# Altium schematic symbol library Schlib.SchLib: 58 symbols (part 3 of 3)
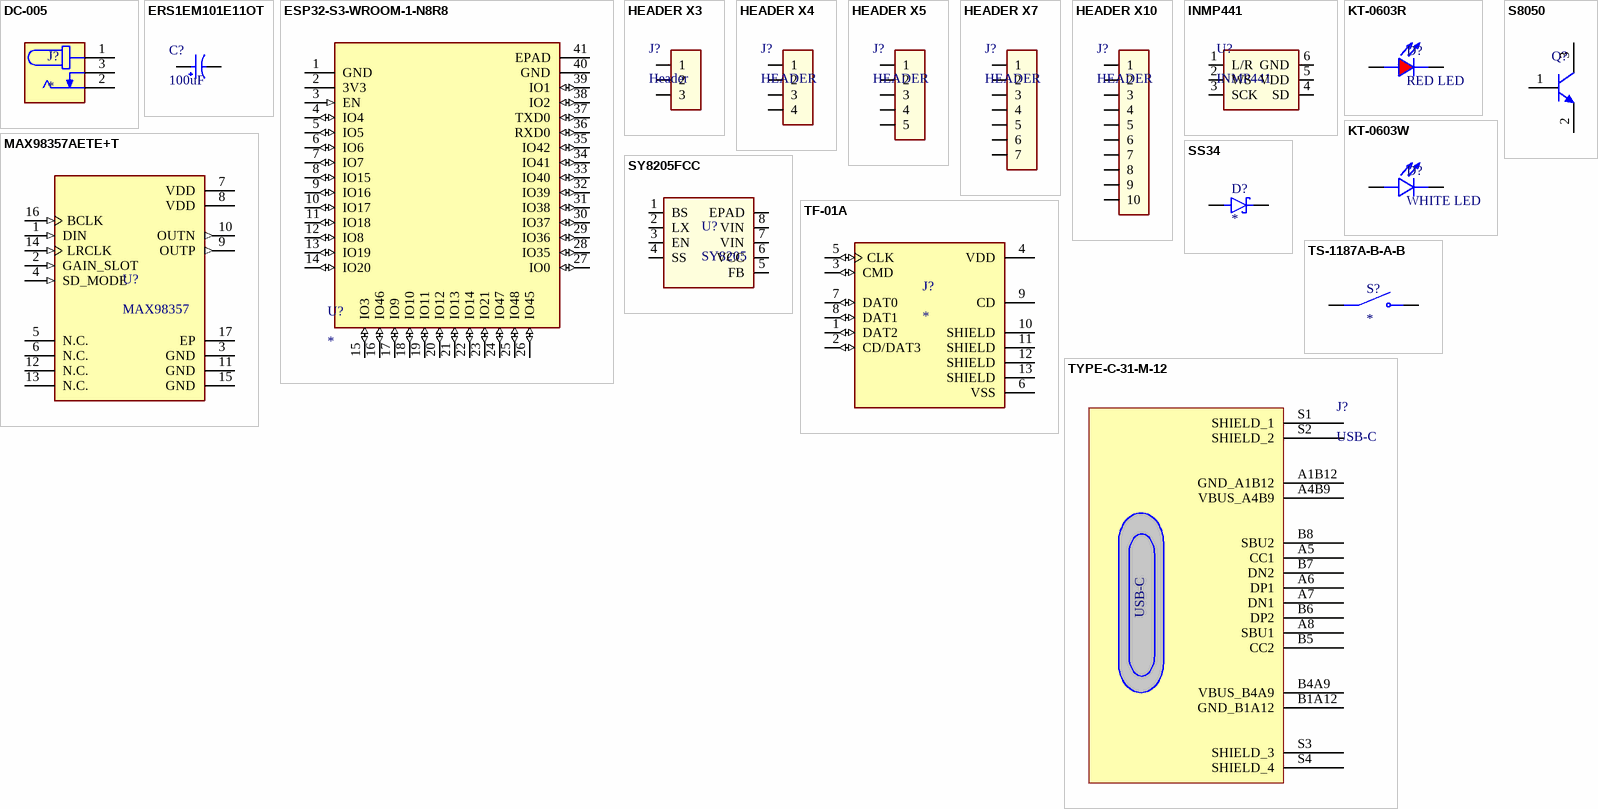
[diagram p3: symbols DC-005 to TYPE-C-31-M-12]

## DC-005
designator J?
DC Jack; MP: DC-005; Availability: Unavailable; Value: *; Package: None; Price: None
footprint XKB_DC-005-5A-2.0
pins: 1, 2, 3

## ERS1EM101E11OT
designator C?, comment 100uF
100uF 25V ±20% Plugin, D6.3xL11mm Aluminum Electrolytic Capacitors - Leaded ROHS; Manufacturer: AISHI; Manufacturer Part Number: ERS1EM101E11OT; Value: 100µF; Leakage Current: 25µA; Ripple Current: 140mA; Supplier: Future Electronics; Supplier Part Number: 1125307; RoHS: Compliant; Category: Aluminum Electrolytic Capacitors; Pricing: 1000=0.0251, 5000=0.0242, 12500=0.0238, 37500=0.0232, 75000=0.0224 (USD); Diameter: 6.3mm; Length: 11mm; Max Operating Temperature: 105°C; Min Operating Temperature: -40°C; Number of Terminals: 2; Packaging: Bulk; REACH SVHC: Yes; Terminal Pitch: 2.5mm; Voltage Rating (DC): 25V; ComponentLink1URL: https://datasheet.octopart.com:443/ERS1EM101E11OT-AISHI-datasheet-182031447.pdf?src-supplier=IHS; ComponentLink1Description: https://datasheet.octopart.com:443/ERS1EM101E11OT-AISHI-datasheet-182031447.pdf?src-supplier=IHS; ComponentLink2URL: https://datasheet.octopart.com:443/ERS1EM101E11OT-AISHI-datasheet-153668799.pdf?src-supplier=Master+Electronics; ComponentLink2Description: https://datasheet.octopart.com:443/ERS1EM101E11OT-AISHI-datasheet-153668799.pdf?src-supplier=Master+Electronics; ComponentLink3URL: https://datasheet.octopart.com:443/ERS1EM101E11OT-AISHI-datasheet-141413433.pdf?src-supplier=Future+Electronics; ComponentLink3Description: https://datasheet.octopart.com:443/ERS1EM101E11OT-AISHI-datasheet-141413433.pdf?src-supplier=Future+Electronics
footprint Cap_DD6.3xP2.5xL11
pins: 1, 2

## ESP32-S3-WROOM-1-N8R8
designator U?
Bluetooth, WiFi 802.11b/g/n, Bluetooth v5.0 Transceiver Module 2.4GHz PCB Trace Surface Mount; MF: Espressif Systems; MP: ESP32-S3-WROOM-1-N8R8; Package: None; Price: None; Check_prices: https://www.snapeda.com/parts/ESP32-S3-WROOM-1-N8R8/Espressif+Systems/view-part/?ref=eda; Value: *; SnapEDA_Link: https://www.snapeda.com/parts/ESP32-S3-WROOM-1-N8R8/Espressif+Systems/view-part/?ref=snap; Availability: In Stock; Purchase-URL: https://pricing.snapeda.com/search?q=ESP32-S3-WROOM-1-N8R8&ref=eda; JLCPCB Part Number: C2913201
footprint XCVR_ESP32S3WROOM1N8R8; pin to pad 41>41_1+41_2+41_3+41_4+41_5+41_6+41_7+41_8+41_9+41_10+41_11+41_12+41_13+41_14+41_15+41_16+41_17+41_18+41_19+41_20+41_21
pins: 1 GND (power), 2 3V3 (power), 3 EN (in), 4 IO4 (io), 5 IO5 (io), 6 IO6 (io), 7 IO7 (io), 8 IO15 (io), 9 IO16 (io), 10 IO17 (io), 11 IO18 (io), 12 IO8 (io), 13 IO19 (io), 14 IO20 (io), 15 IO3 (io), 16 IO46 (io), 17 IO9 (io), 18 IO10 (io), 19 IO11 (io), 20 IO12 (io), 21 IO13 (io), 22 IO14 (io), 23 IO21 (io), 24 IO47 (io), 25 IO48 (io), 26 IO45 (io), 27 IO0 (io), 28 IO35 (io), 29 IO36 (io), 30 IO37 (io), 31 IO38 (io), 32 IO39 (io), 33 IO40 (io), 34 IO41 (io), 35 IO42 (io), 36 RXD0 (io), 37 TXD0 (io), 38 IO2 (io), 39 IO1 (io), 40 GND (power), 41 EPAD (power)

## HEADER X3
designator J?, comment Header
footprint HEADER X3
footprint HEADER X3 - ANGLED
pins: 1, 2, 3

## HEADER X4
designator J?, comment HEADER
footprint HEADER X4
footprint HEADER X4 - ANGLED
pins: 1, 2, 3, 4

## HEADER X5
designator J?, comment HEADER
footprint HEADER X5
footprint HEADER X5 - ANGLED
pins: 1, 2, 3, 4, 5

## HEADER X7
designator J?, comment HEADER
footprint HEADER X7
footprint HEADER X7 - ANGLED
pins: 1, 2, 3, 4, 5, 6, 7

## HEADER X10
designator J?, comment HEADER
footprint HEADER X10
footprint HEADER X10 - ANGLED
pins: 1, 2, 3, 4, 5, 6, 7, 8, 9, 10

## INMP441
designator U?
footprint INMP441
pins: 1 L/R, 2 WS, 3 SCK, 4 SD, 5 VDD, 6 GND

## KT-0603R
designator D?, comment RED LED
Red 0603 Light Emitting Diodes; MF: Hubei KENTO Elec; MP: KT-0603R; SnapEDA_Link: https://www.snapeda.com/parts/KT-0603R/Hubei+KENTO+Elec/view-part/?ref=snap; Package: Package; Check_prices: https://www.snapeda.com/parts/KT-0603R/Hubei+KENTO+Elec/view-part/?ref=eda; JLCPCB Part Number: C2286; Value: *
footprint LED_KT-0603R
footprint LED_KT-0603R
pins: A, C

## KT-0603W
designator D?, comment WHITE LED
White 0603 Light Emitting Diodes; MF: Hubei KENTO Elec; MP: KT-0603W; SnapEDA_Link: https://www.snapeda.com/parts/KT-0603R/Hubei+KENTO+Elec/view-part/?ref=snap; Package: Package; Check_prices: https://www.snapeda.com/parts/KT-0603R/Hubei+KENTO+Elec/view-part/?ref=eda; JLCPCB Part Number: C2290; Value: *
footprint LED_KT-0603R
footprint LED_KT-0603R
pins: A, C

## MAX98357AETE+T
designator U?, comment MAX98357
MAX98357A Series 5.5 V 3.2 W PCM Input Class D Audio Power Amplifier - TQFN-16; Manufacturer: Analog Devices; Manufacturer Part Number: MAX98357AETE+T; Manufacturer Lifecycle Status: PRODUCTION; Max Junction Temperature (Tj): 150°C; Max Output current: 1.6A; Max Output Power: 3.2W; Max Power Dissipation: 1.666W; Max Supply Voltage: 5.5V; Min Supply Voltage: 2.5V; Number of Channels: 1; Power Supply Rejection Ratio (PSRR): 77dB; Voltage Gain: 15dB; Supplier: Arrow Electronics; Supplier Part Number: MAX98357AETE+T; RoHS: Compliant; Category: Amplifiers - Audio; Stock: 25000; Pricing: 2500=1.79 (USD); Contact Plating: Tin; Height: 800µm; Lifecycle Status: Production; Max Operating Temperature: 85°C; Min Operating Temperature: -40°C; Mounting Technology: Surface Mount; Pins: 16; Output Power: 3.2W; Packaging: Tape & Reel; Radiation Hardening: No; Schedule B: 8542330000|8542330000|8542330000|8542330000|8542330000|8542330000|8542330000|8542330000|8542330000|8542330000|8542330000|8542330000|8542330000|8542330000|8542330000|8542330000|8542330000|8542330000|8542330000|8542330000|8542330000|8542330000|8542330000|85; ComponentLink1URL: https://octopart.com:443/opatz8j6/c1?t=yNMcU-XKDkN0o8xYTm6URhn_9nIMPsgQBI2xg8KwH08FPVC2Yp0oEBvhVJDvC8BH403lD25RLMIzjaHixokeavaTNiQVrExSZWvE8s6gsZaIo393pUunWghAhyc9gjbEdNTCGxTHPWBUsap5xi9Gu6gxJcYS-WroDv5vRs7YcAlmUrPds1qcg3g8cBoBcp6UucJZouH41N7pn-Wjuljw_0PJOBHrmdg4OBDFIBiilKuMmyQYrtQ3oepzhxq9wijavMwLeH-RY1-oKGgnQ6O4hL2jPF6tDAGh0ittBY25sJCSPs2FuKYzAUL7kSc&src-supplier=Analog+Devices; ComponentLink1Description: https://octopart.com:443/opatz8j6/c1?t=yNMcU-XKDkN0o8xYTm6URhn_9nIMPsgQBI2xg8KwH08FPVC2Yp0oEBvhVJDvC8BH403lD25RLMIzjaHixokeavaTNiQVrExSZWvE8s6gsZaIo393pUunWghAhyc9gjbEdNTCGxTHPWBUsap5xi9Gu6gxJcYS-WroDv5vRs7YcAlmUrPds1qcg3g8cBoBcp6UucJZouH41N7pn-Wjuljw_0PJOBHrmdg4OBDFIBiilKuMmyQYrtQ3oepzhxq9wijavMwLeH-RY1-oKGgnQ6O4hL2jPF6tDAGh0ittBY25sJCSPs2FuKYzAUL7kSc&src-supplier=Analog+Devices; ComponentLink2URL: https://datasheet.octopart.com:443/MAX98357AETE%2BT-Analog-Devices-datasheet-140103828.pdf?src-supplier=Upverter; ComponentLink2Description: https://datasheet.octopart.com:443/MAX98357AETE%2BT-Analog-Devices-datasheet-140103828.pdf?src-supplier=Upverter; ComponentLink3URL: https://datasheet.octopart.com:443/MAX98357AETE%2BT-Maxim-Integrated-datasheet-82537686.pdf?src-supplier=Upverter; ComponentLink3Description: https://datasheet.octopart.com:443/MAX98357AETE%2BT-Maxim-Integrated-datasheet-82537686.pdf?src-supplier=Upverter; ComponentLink4URL: https://sigma.octopart.com:443/141243535/technical_drawing/Maxim-Integrated-MAX98357AETE%2BT.pdf?src-supplier=Upverter; ComponentLink4Description: https://sigma.octopart.com:443/141243535/technical_drawing/Maxim-Integrated-MAX98357AETE%2BT.pdf?src-supplier=Upverter; ComponentLink5URL: https://datasheet.octopart.com:443/MAX98357AETE%2BT-Maxim-Integrated-datasheet-134531866.pdf?src-supplier=Augswan; ComponentLink5Description: https://datasheet.octopart.com:443/MAX98357AETE%2BT-Maxim-Integrated-datasheet-134531866.pdf?src-supplier=Augswan; ComponentLink6URL: https://sigma.octopart.com:443/140082349/technical_drawing/Maxim-Integrated-MAX98357AETE%2BT.pdf?src-supplier=ShanghaiCT; ComponentLink6Description: https://sigma.octopart.com:443/140082349/technical_drawing/Maxim-Integrated-MAX98357AETE%2BT.pdf?src-supplier=ShanghaiCT; ComponentLink7URL: https://datasheet.octopart.com/MAX98357AETE%2BT-Maxim-Integrated-datasheet-38886134.pdf; ComponentLink7Description: https://datasheet.octopart.com/MAX98357AETE%2BT-Maxim-Integrated-datasheet-38886134.pdf; ComponentLink8URL: https://datasheet.octopart.com:443/MAX98357AETE%2BT-Maxim-Integrated-datasheet-8516998.pdf?src-supplier=Future+Electronics; ComponentLink8Description: https://datasheet.octopart.com:443/MAX98357AETE%2BT-Maxim-Integrated-datasheet-8516998.pdf?src-supplier=Future+Electronics; ComponentLink9URL: http://sigma.octopart.com:80/conflict_mineral_statement/Analog-Devices-company-33.pdf?src-supplier=Compliance+Statements; ComponentLink9Description: http://sigma.octopart.com:80/conflict_mineral_statement/Analog-Devices-company-33.pdf?src-supplier=Compliance+Statements; ComponentLink10URL: http://sigma.octopart.com:80/reach_statement/Maxim-Integrated-company-67.pdf?src-supplier=Compliance+Statements; ComponentLink10Description: http://sigma.octopart.com:80/reach_statement/Maxim-Integrated-company-67.pdf?src-supplier=Compliance+Statements; ComponentLink11URL: http://sigma.octopart.com:80/rohs_statement/Maxim-Integrated-company-66.pdf?src-supplier=Compliance+Statements; ComponentLink11Description: http://sigma.octopart.com:80/rohs_statement/Maxim-Integrated-company-66.pdf?src-supplier=Compliance+Statements; ComponentLink12URL: http://sigma.octopart.com:80/conflict_mineral_statement/Maxim-Integrated-company-65.pdf?src-supplier=Compliance+Statements; ComponentLink12Description: http://sigma.octopart.com:80/conflict_mineral_statement/Maxim-Integrated-company-65.pdf?src-supplier=Compliance+Statements; ComponentLink13URL: https://octopart.com:443/opatz8j6/c1?t=Bv0f2BfoFwhohv0un7o9I76aj1Xgk1do5QHf943lLTAxTqEHx7lmJWxQapPRwJ1ZPM2rfGeu9eyIDRKCTRSszAJjc-Y6A6857H2kllxuKAe81eMTjIw00LDOIqYYt6JZWnfvf9QMGuM_YnFFat26XlcKCsZlKGoQx8nEl0G9eghXLw97whAUolrM5eqhMvKf2icvXdkOI4euicsOknz0zqGQGmH642O5ZZoYkcJIVnHvFIEPNikdwc4jUnCaVVIMlMAENlRaq6kb5gSh-48hbdm7PCRa_yqLfIkEbgV7REraBSXS9nqDSCO-wDo&src-supplier=Compliance+Statements; ComponentLink13Description: https://octopart.com:443/opatz8j6/c1?t=Bv0f2BfoFwhohv0un7o9I76aj1Xgk1do5QHf943lLTAxTqEHx7lmJWxQapPRwJ1ZPM2rfGeu9eyIDRKCTRSszAJjc-Y6A6857H2kllxuKAe81eMTjIw00LDOIqYYt6JZWnfvf9QMGuM_YnFFat26XlcKCsZlKGoQx8nEl0G9eghXLw97whAUolrM5eqhMvKf2icvXdkOI4euicsOknz0zqGQGmH642O5ZZoYkcJIVnHvFIEPNikdwc4jUnCaVVIMlMAENlRaq6kb5gSh-48hbdm7PCRa_yqLfIkEbgV7REraBSXS9nqDSCO-wDo&src-supplier=Compliance+Statements
footprint QFN50P300X300X80-17N
pins: 1 DIN (in), 2 GAIN_SLOT (in), 3 GND (power), 4 SD_MODE (in), 5 N.C., 6 N.C., 7 VDD (power), 8 VDD (power), 9 OUTP (out), 10 OUTN (out), 11 GND (power), 12 N.C., 13 N.C., 14 LRCLK (in), 15 GND (power), 16 BCLK (in), 17 EP (power)

## S8050
designator Q?
-55℃~+150℃ 1 NPN 100nA 150MHz 200 25V 300mW 500mA 5V 600mV NPN SOT-23 Bipolar (BJT) ROHS; Package: SOT-23; JLCPCB Part Number: C2146
footprint SOT-23
pins: 1 B, 2 E, 3 C

## SS34
designator D?
MP: SS34; Package: SMA(DO-214AC); Price: None; Value: *; Availability: Unavailable; JLCPCB Part Number: C8678
footprint SMA(DO-214AC) Schottky Diode
pins: 1 K, 2 A

## SY8205FCC
designator U?, comment SY8205
Manufacturer_Part_Number: SY8205FCC; Package: SOIC-8-EP; JLCPCB Part Number: C111875
footprint SOIC-8-EP
pins: 1 BS, 2 LX, 3 EN, 4 SS, 5 FB, 6 VCC, 7 VIN, 8 VIN, EPAD

## TF-01A
designator J?
Standard Card Edge Connectors; MP: TF-01A; MF: HRO Electronics Co., Ltd.; Price: None; Availability: Not in stock; Package: Package; SnapEDA_Link: https://www.snapeda.com/parts/TF-01A/HRO+Electronics+Co.%252C+Ltd./view-part/?ref=snap; Check_prices: https://www.snapeda.com/parts/TF-01A/HRO+Electronics+Co.%252C+Ltd./view-part/?ref=eda; Value: *; Manufacturer_Part_Number: TF-01A; JLCPCB Part Number: C91145
footprint TF-01A
pins: 1 DAT2 (io), 2 CD/DAT3 (io), 3 CMD (io), 4 VDD (power), 5 CLK (io), 6 VSS (power), 7 DAT0 (io), 8 DAT1 (io), 9 CD, 10 SHIELD (power), 11 SHIELD (power), 12 SHIELD (power), 13 SHIELD (power)

## TS-1187A-B-A-B
designator S?
SPST 50mA @ 12VDC Top Actuated Round Button 160gf SMD Tactile Switches RoHS; MP: TS-1187A-B-A-B; Value: *; Price: None; Package: None; Availability: Unavailable; JLCPCB Part Number: C318884
footprint SW_TS-1187A-B-A-B
pins: A COM, B COM, C NO, D NO

## TYPE-C-31-M-12
designator J?, comment USB-C
-30℃~+80℃ 1 10,000 cycles 16P 20V 5A 7.35mm Female Surface Mount, Right Angle Type-C SMD USB Connectors ROHS; Manufacturer Part Number: TYPE-C-31-M-12; JLCPCB Part Number: C165948
footprint CONN12_C-31-M-12_HRO
pins: A1B12 GND_A1B12, A4B9 VBUS_A4B9, A5 CC1, A6 DP1, A7 DN1, A8 SBU1, B1A12 GND_B1A12, B4A9 VBUS_B4A9, B5 CC2, B6 DP2, B7 DN2, B8 SBU2, S1 SHIELD_1, S2 SHIELD_2, S3 SHIELD_3, S4 SHIELD_4